# Altium schematic symbol library ADS8686S.SchLib: 2 symbols
Pins are listed as number, name and electrical type; pins without a type are passive.

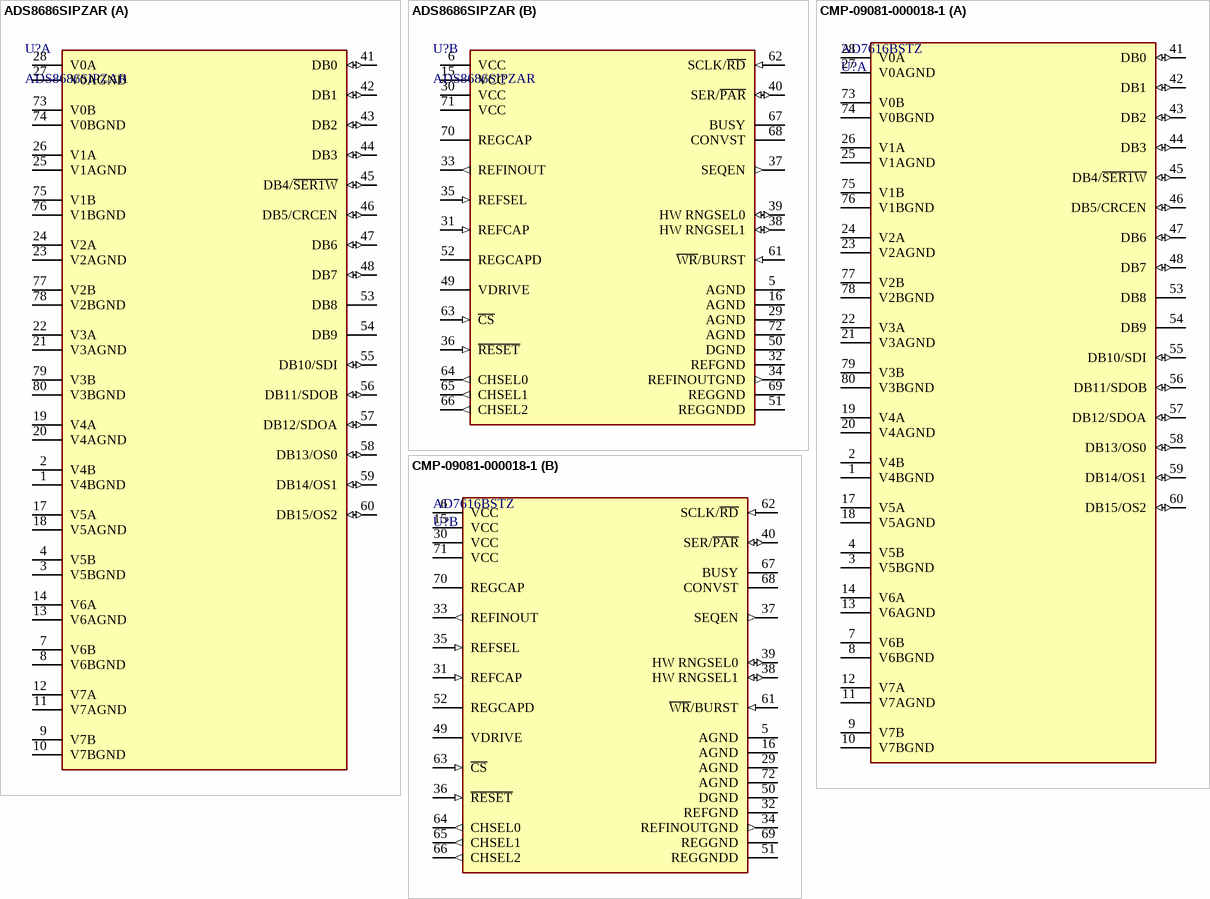
[diagram p0: symbols ADS8686SIPZAR to CMP-09081-000018-1]

## ADS8686SIPZAR
designator U?
16-channel 16-bit 1-MSPS dual simultaneous-sampling ADC with integrated analog front end (AFE) 80-LQFP -40 to 125; Manufacturer: Texas Instruments; Supplier: Mouser; Supplier Part Number: 595-ADS8686SIPZAR; Manufacturer Part Number: ADS8686SIPZAR; RoHS: Yes; Category: Analog to Digital Converters (ADCs); Stock: 975; Pricing: 1=20.61, 10=19.01, 50=18.16, 100=16.24, 1000=13.88, 10000=13.88 (USD); RoHS Compliant: Yes; Supplier 1: Mouser; Supplier Part Number 1: 595-ADS8686SIPZAR
footprint FP-ST-80-2-IPC_A
part A pins: 1 V4BGND (power), 2 V4B (power), 3 V5BGND (power), 4 V5B (power), 7 V6B (power), 8 V6BGND (power), 9 V7B (power), 10 V7BGND (power), 11 V7AGND (power), 12 V7A (power), 13 V6AGND (power), 14 V6A (power), 17 V5A (power), 18 V5AGND (power), 19 V4A (power), 20 V4AGND (power), 21 V3AGND (power), 22 V3A (power), 23 V2AGND (power), 24 V2A (power), 25 V1AGND (power), 26 V1A (power), 27 V0AGND (power), 28 V0A (power), 41 DB0 (io), 42 DB1 (io), 43 DB2 (io), 44 DB3 (io), 45 DB4/~{SER1W} (io), 46 DB5/CRCEN (io), 47 DB6 (io), 48 DB7 (io), 53 DB8 (power), 54 DB9 (power), 55 DB10/SDI (io), 56 DB11/SDOB (io), 57 DB12/SDOA (io), 58 DB13/OS0 (io), 59 DB14/OS1 (io), 60 DB15/OS2 (io), 73 V0B (power), 74 V0BGND (power), 75 V1B (power), 76 V1BGND (power), 77 V2B (power), 78 V2BGND (power), 79 V3B (power), 80 V3BGND (power)
part B pins: 5 AGND (power), 6 VCC (power), 15 VCC (power), 16 AGND (power), 29 AGND (power), 30 VCC (power), 31 REFCAP (in), 32 REFGND (power), 33 REFINOUT (out), 34 REFINOUTGND (out), 35 REFSEL (in), 36 ~{RESET} (in), 37 SEQEN (out), 38 HW RNGSEL1 (io), 39 HW RNGSEL0 (io), 40 SER/~{PAR} (io), 49 VDRIVE (power), 50 DGND (power), 51 REGGNDD (power), 52 REGCAPD (power), 61 ~{WR}/BURST (in), 62 SCLK/~{RD} (in), 63 ~{CS} (in), 64 CHSEL0 (out), 65 CHSEL1 (out), 66 CHSEL2 (out), 67 BUSY, 68 CONVST, 69 REGGND (power), 70 REGCAP (power), 71 VCC (power), 72 AGND (power)

## CMP-09081-000018-1
designator U?, comment AD7616BSTZ
IC ADC 16BIT SAR 80LQFP; Manufacturer: Texas Instruments; Manufacturer Part Number: ADS8686SIPZAR; Number of A/D Converters: 2; Interface: SPI; Sampling Rate: 1000000S/s; Number of Bits: 16; Description: 16-channel 16-bit 1-MSPS dual simultaneous-sampling ADC with integrated analog front end (AFE) 80-LQFP -40 to 125; RoHS Compliant: Yes; Max Operating Temperature: 125°C; Case/Package: LQFP; Lead Free: Contains Lead; Min Operating Temperature: -40°C; Number of Pins: 80; Number of Inputs: 16; Packaging: Tray; Supplier: Mouser; Supplier Part Number: 595-ADS8686SIPZAR; RoHS: Yes; Category: Analog to Digital Converters (ADCs); Stock: 975; Pricing: 1=20.61, 10=19.01, 50=18.16, 100=16.24, 1000=13.88, 10000=13.88 (USD)
footprint FP-ST-80-2-IPC_B
footprint FP-ST-80-2-IPC_C
footprint FP-ST-80-2-IPC_A
part A pins: 1 V4BGND (power), 2 V4B (power), 3 V5BGND (power), 4 V5B (power), 7 V6B (power), 8 V6BGND (power), 9 V7B (power), 10 V7BGND (power), 11 V7AGND (power), 12 V7A (power), 13 V6AGND (power), 14 V6A (power), 17 V5A (power), 18 V5AGND (power), 19 V4A (power), 20 V4AGND (power), 21 V3AGND (power), 22 V3A (power), 23 V2AGND (power), 24 V2A (power), 25 V1AGND (power), 26 V1A (power), 27 V0AGND (power), 28 V0A (power), 41 DB0 (io), 42 DB1 (io), 43 DB2 (io), 44 DB3 (io), 45 DB4/~{SER1W} (io), 46 DB5/CRCEN (io), 47 DB6 (io), 48 DB7 (io), 53 DB8 (power), 54 DB9 (power), 55 DB10/SDI (io), 56 DB11/SDOB (io), 57 DB12/SDOA (io), 58 DB13/OS0 (io), 59 DB14/OS1 (io), 60 DB15/OS2 (io), 73 V0B (power), 74 V0BGND (power), 75 V1B (power), 76 V1BGND (power), 77 V2B (power), 78 V2BGND (power), 79 V3B (power), 80 V3BGND (power)
part B pins: 5 AGND (power), 6 VCC (power), 15 VCC (power), 16 AGND (power), 29 AGND (power), 30 VCC (power), 31 REFCAP (in), 32 REFGND (power), 33 REFINOUT (out), 34 REFINOUTGND (out), 35 REFSEL (in), 36 ~{RESET} (in), 37 SEQEN (out), 38 HW RNGSEL1 (io), 39 HW RNGSEL0 (io), 40 SER/~{PAR} (io), 49 VDRIVE (power), 50 DGND (power), 51 REGGNDD (power), 52 REGCAPD (power), 61 ~{WR}/BURST (in), 62 SCLK/~{RD} (in), 63 ~{CS} (in), 64 CHSEL0 (out), 65 CHSEL1 (out), 66 CHSEL2 (out), 67 BUSY, 68 CONVST, 69 REGGND (power), 70 REGCAP (power), 71 VCC (power), 72 AGND (power)